# Altium footprint library Header-2.54mm-1X5-M-V.PcbLib: 1 footprints
Each footprint in its own frame and in the unit in brackets; x right, y up, seen from the top. Pads: shape width x height; smd on the part's side, far side on the other; paste and mask are expansions set on the pad; w line width, h text height; cw(c..) or ccw(c..) is an arc to the next point about the centre after c.
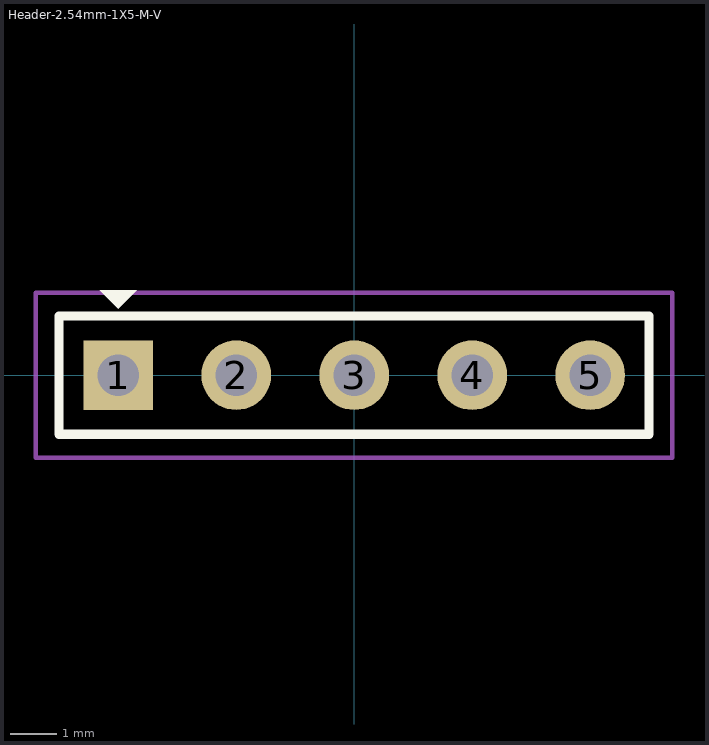
[diagram p0: the footprint, top view; thin cyan lines are the x and y axes]

## Header-2.54mm-1X5-M-V [mm]
pads (5):
  rect 1.5x1.5 hole 0.9: 1(-5.08,0)
  round 1.5 hole 0.9: 2(-2.54,0) 3(0,0) 4(2.54,0) 5(5.08,0)
Top Overlay:
  region: -5.48,1.825 -4.68,1.825 -5.08,1.425
  lines w0.2: -6.355,-1.275 -6.355,1.275 6.345,1.275 6.345,-1.275 -6.355,-1.275
Top Courtyard:
  lines w0.1: -6.855,-1.775 -6.855,1.775 6.845,1.775 6.845,-1.775 -6.855,-1.775
3D body "Pin Header Male 01x01 P2.54mm.stp": height 8.34, standoff -3.05, extent 1.27,-1.272 3.81,1.268
3D body "Pin Header Male 01x01 P2.54mm.stp": height 8.34, standoff -3.05, extent -6.35,-1.272 -3.81,1.268
3D body: height 3, standoff 0, extent 1.803,-0.737 3.277,0.737
3D body "Pin Header Male 01x01 P2.54mm.stp": height 8.34, standoff -3.05, extent 3.81,-1.272 6.35,1.268
3D body "Pin Header Male 01x01 P2.54mm.stp": height 8.34, standoff -3.05, extent -3.81,-1.272 -1.27,1.268
3D body "Pin Header Male 01x01 P2.54mm.stp": height 8.34, standoff -3.05, extent -1.27,-1.272 1.27,1.268
3D body: height 3, standoff 0, extent 4.343,-0.737 5.817,0.737
3D body: height 3, standoff 0, extent -5.817,-0.737 -4.343,0.737
3D body: height 3, standoff 0, extent -3.277,-0.737 -1.803,0.737
3D body: height 3, standoff 0, extent -0.737,-0.737 0.737,0.737